# Altium schematic symbol library MyLibs_Diodes.SchLib: 5 symbols
Pins are listed as number, name and electrical type; pins without a type are passive.

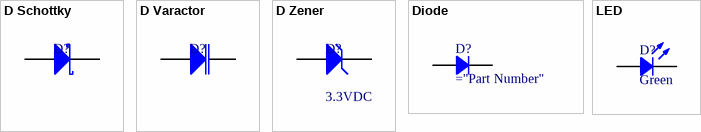
[diagram p0: symbols D Schottky to LED]

## D Schottky
designator D?
Schottky Diode
signal-integrity model D Schottky
pins: 1 A, 2 C

## D Varactor
designator D?
Variable Capacitance Diode
signal-integrity model D Varactor
pins: 1 K, 3 A

## D Zener
designator D?, comment 3.3VDC
Zener Diode; Value: 3.3VDC
pins: 1 A, 2 K

## Diode
designator D?
Rectifier Diode
pins: 1, 2

## LED
designator D?, comment Green
Chip LED; Value: Green
pins: 1, 2